# Altium footprint library Brian301.PcbLib: 1 footprints
Each footprint in its own frame and in the unit in brackets; x right, y up, seen from the top. Pads: shape width x height; smd on the part's side, far side on the other; paste and mask are expansions set on the pad; w line width, h text height; cw(c..) or ccw(c..) is an arc to the next point about the centre after c.
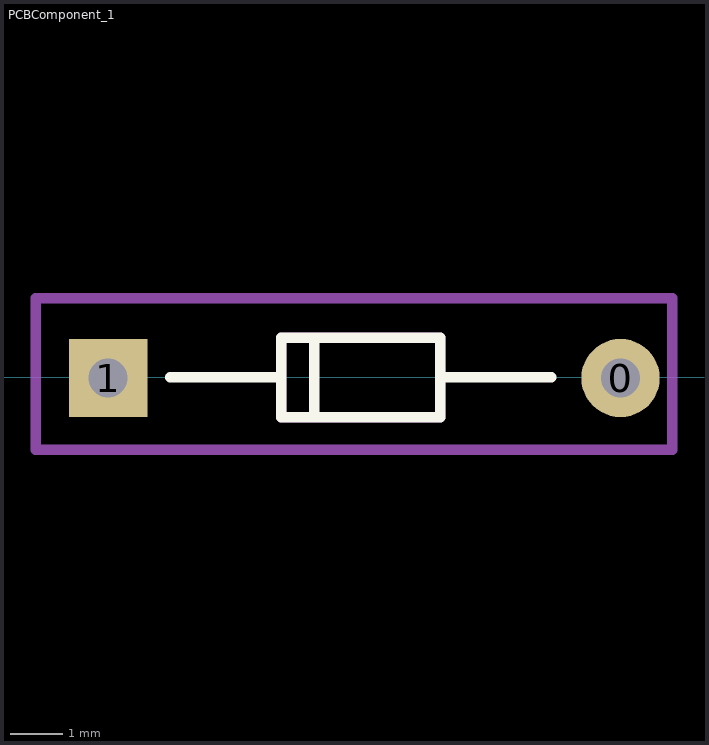
[diagram p0: the footprint, top view; thin cyan lines are the x and y axes]

## PCBComponent_1 [mm]
pads (2):
  round 1.5 hole 0.75 paste-1000 mask+0: 0(14.377,-0.014)
  rect 1.5x1.5 hole 0.75 paste-1000 mask+0: 1(4.56,-0.014)
Top Overlay:
  lines w0.2: 5.747,0 7.747,0 ; 8.509,-0.762 8.509,0.762 ; 11.049,0 13.049,0 ; 7.874,-0.762 7.874,0.762 10.922,0.762 10.922,-0.762 7.874,-0.762
Mechanical 5:
  lines w0.2: 3.175,-1.386 15.367,-1.386 15.367,1.514 3.175,1.514 3.175,-1.386
Mechanical 13:
  lines w0.2: 7.874,-0.762 7.874,0.762 10.922,0.762 10.922,-0.762 7.874,-0.762
3D body "Diode_Nexperia_BAT85_113_eec.STEP": height 0.79, standoff -4.8, extent 6.035,-0.75 12.725,0.85